# Altium footprint library QFN-12-4x4-0.8mm.PcbLib: 1 footprints
Each footprint in its own frame and in the unit in brackets; x right, y up, seen from the top. Pads: shape width x height; smd on the part's side, far side on the other; paste and mask are expansions set on the pad; w line width, h text height; cw(c..) or ccw(c..) is an arc to the next point about the centre after c.
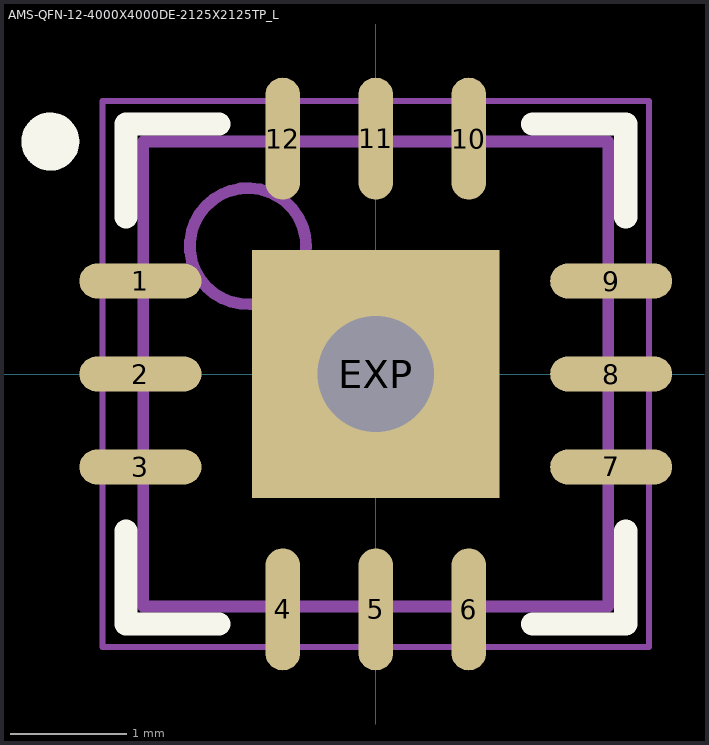
[diagram p0: the footprint, top view; thin cyan lines are the x and y axes]

## AMS-QFN-12-4000X4000DE-2125X2125TP_L [mm] "QFN, 12-Leads, Body 4.00x4.00mm, Pitch 0.80mm, Thermal Pad 2.13x2.13mm, IPC High Density"
height 1
pads (13):
  oval 1.05x0.3 smd: 1(-2.025,0.8) 2(-2.025,0) 3(-2.025,-0.8) 7(2.025,-0.8) 8(2.025,0) 9(2.025,0.8)
  oval 0.3x1.05 smd: 4(-0.8,-2.025) 5(0,-2.025) 6(0.8,-2.025) 10(0.8,2.025) 11(0,2.025) 12(-0.8,2.025)
  rect 2.13x2.13 smd: EXP(0,0)
via 0,0 diameter 1.6 hole 1
Top Overlay:
  circle w0.25: c-2.8,2 r0.125
  lines w0.2: -2.15,-1.35 -2.15,-2.15 -1.35,-2.15 ; -2.15,1.35 -2.15,2.15 -1.35,2.15 ; 1.35,-2.15 2.15,-2.15 2.15,-1.35 ; 1.35,2.15 2.15,2.15 2.15,1.35
Mechanical 13:
  circle w0.1: c-1.1,1.1 r0.5
  lines w0.1: -2,-2 2,-2 2,2 -2,2 -2,-2
Mechanical 15:
  lines w0.05: -2.35,-2.35 2.35,-2.35 2.35,2.35 -2.35,2.35 -2.35,-2.35
  lines w0.1: -0.5,0 0.5,0 ; 0,-0.5 0,0.5
3D body: height 1, standoff 0, extent -2,-2 2,2